# EAGLE library part 1X06 (library foe-scale)
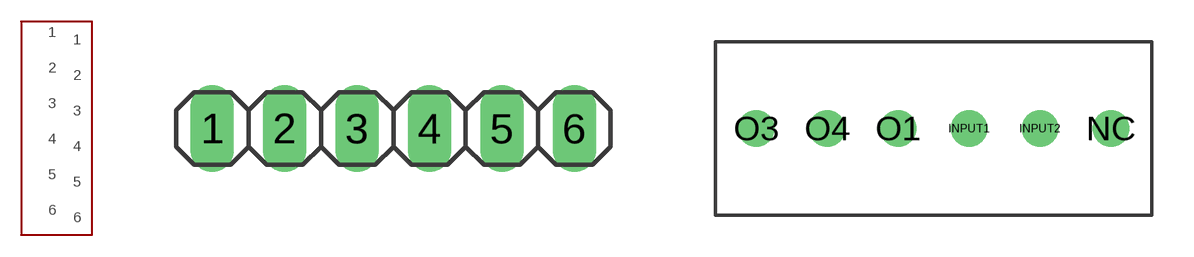
[diagram p10: symbol with the pads of 1X06; footprints 1X06, SWITCHHEAD]

Designator prefix -

## 1X06THROUGHHOLE  [1X06]
1  1
2  2
3  3
4  4
5  5
6  6

## 1X06  [SWITCHHEAD]
INPUT1  4
INPUT2  5
NC  6
O1  3
O3  1
O4  2

## Footprint 1X06 (pad centres in mm)
PIN HEADER
drill 1.016 long: 1 -6.35,0; 2 -3.81,0; 3 -1.27,0; 4 1.27,0; 5 3.81,0; 6 6.35,0

## Footprint SWITCHHEAD (pad centres in mm)
drill 0.8: INPUT1 1.27,0; INPUT2 3.81,0; NC 6.35,0; O1 -1.27,0; O3 -6.35,0; O4 -3.81,0